# Altium footprint library PcbLibMG.PcbLib: 8 footprints
Each footprint in its own frame and in the unit in brackets; x right, y up, seen from the top. Pads: shape width x height; smd on the part's side, far side on the other; paste and mask are expansions set on the pad; w line width, h text height; cw(c..) or ccw(c..) is an arc to the next point about the centre after c.
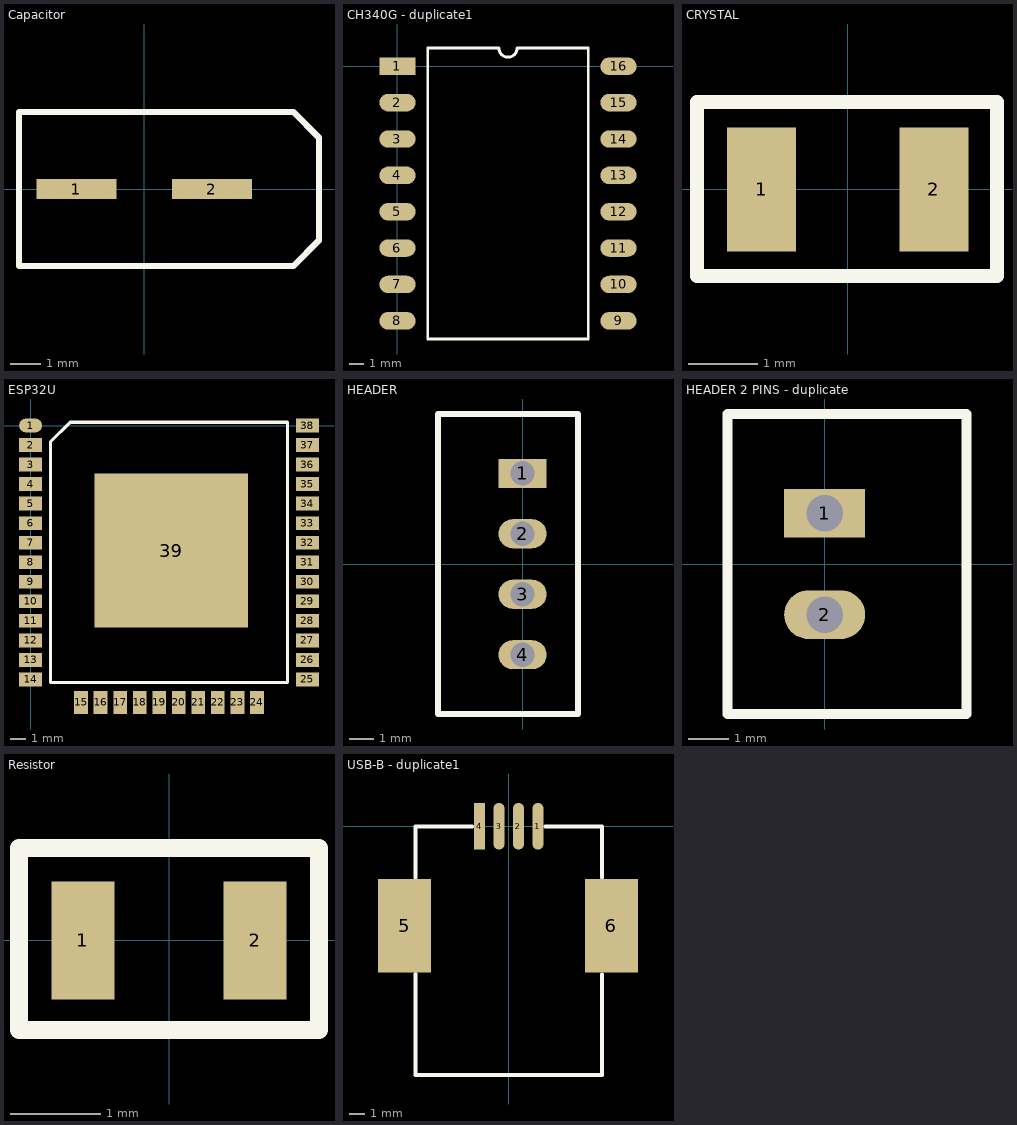
[diagram p0: the footprints below, top view; thin cyan lines are the x and y axes]

## Capacitor [mm]
pads (2):
  rect 2.6x0.65 smd: 1(-2.2,0) 2(2.2,0)
Top Overlay:
  lines w0.2: -4.064,-2.5 4.842,-2.5 5.675,-1.667 5.675,1.667 4.842,2.5 -4.064,2.5 -4.064,-2.5
3D body "EEEFN1V470L.STEP": height 5.8, standoff 0, extent -3.523,-3.173 3.777,3.427

## CH340G - duplicate1 [mm]
pads (16):
  rect 2.5x1.2 smd: 1(0,0)
  oval 2.5x1.2 smd: 2(0,-2.5) 3(0,-5) 4(0,-7.5) 5(0,-10) 6(0,-12.5) 7(0,-15) 8(0,-17.5) 9(15.2,-17.5) 10(15.2,-15) 11(15.2,-12.5) 12(15.2,-10) 13(15.2,-7.5) 14(15.2,-5) 15(15.2,-2.5) 16(15.2,0)
Top Overlay:
  lines w0.2: 2.085,-18.75 2.085,1.25 6.975,1.25 ccw(c7.6,1.25) 8.225,1.25 13.115,1.25 13.115,-18.75 2.085,-18.75
3D body "Ch340G--3DModel-STEP-56544.STEP": height 1.8, standoff 0, extent 4.5,-14.4 10.5,-4.4

## CRYSTAL [mm]
pads (2):
  rect 1x1.8 smd: 1(-1.25,0) 2(1.25,0)
Top Overlay:
  lines w0.2: -2.186,-1.255 2.167,-1.255 2.167,1.268 -2.186,1.268 -2.186,-1.255
3D body "CM8V-T1A-32.768KHZ-12.5PF-20PPM-TA-QA.STEP": height 0.6, standoff 0, extent -0.974,-0.587 1.026,0.613

## ESP32U [mm]
pads (39):
  oval 1.5x0.9 smd: 1(0,0)
  rect 1.5x0.9 smd: 2(0,-1.27) 3(0,-2.54) 4(0,-3.81) 5(0,-5.08) 6(0,-6.35) 7(0,-7.62) 8(0,-8.89) 9(0,-10.16) 10(0,-11.43) 11(0,-12.7) 12(0,-13.97) 13(0,-15.24) 14(0,-16.51) 25(18,-16.51) 26(18,-15.24) 27(18,-13.97) 28(18,-12.7) 29(18,-11.43) 30(18,-10.16) 31(18,-8.89) 32(18,-7.62) 33(18,-6.35) 34(18,-5.08) 35(18,-3.81) 36(18,-2.54) 37(18,-1.27) 38(18,0)
  rect 0.9x1.5 smd: 15(3.285,-18.01) 16(4.555,-18.01) 17(5.825,-18.01) 18(7.095,-18.01) 19(8.365,-18.01) 20(9.635,-18.01) 21(10.905,-18.01) 22(12.175,-18.01) 23(13.445,-18.01) 24(14.715,-18.01)
  rect 10x10 smd: 39(9.144,-8.128)
Top Overlay:
  lines w0.2: 1.285,-16.725 1.285,-1.07 2.57,0.215 16.715,0.215 16.715,-16.725 1.285,-16.725
3D body "ESP32-WROOM-32--3DModel-STEP-1.STEP": height 3.2, standoff 0, extent -0.11,-17.957 17.89,7.543

## HEADER [mm]
pads (4):
  rect 2x1.2 hole 1: 1(0,3.75)
  oval 2x1.2 hole 1: 2(0,1.25) 3(0,-1.25) 4(0,-3.75)
Top Overlay:
  lines w0.254: -3.5,-6.2 -3.5,6.2 2.3,6.2 2.3,-6.2 -3.5,-6.2
3D body "B4B-XH-A--3DModel-STEP-56544.STEP": height 7, standoff -3.4, extent -3.5,-6.2 2.25,6.2

## HEADER 2 PINS - duplicate [mm]
pads (2):
  rect 2x1.2 hole 0.9: 1(0,1.25)
  oval 2x1.2 hole 0.9: 2(0,-1.25)
Top Overlay:
  lines w0.254: -2.4,-3.7 3.5,-3.7 3.5,3.7 -2.4,3.7 -2.4,-3.7
3D body "B2B-XH-A--3DModel-STEP-56544.STEP": height 7, standoff -3.4, extent -2.25,-3.7 3.5,3.7

## Resistor [mm]
pads (2):
  rect 0.7x1.3 smd: 1(-0.95,0) 2(0.95,0)
Top Overlay:
  lines w0.2: -1.657,-0.988 -1.657,1.02 1.657,1.02 1.657,-0.988 -1.657,-0.988
3D body "RT0805FRE07255RL.STEP": height 0.6, standoff 0, extent -0.997,-0.621 1.003,0.629

## USB-B - duplicate1 [mm]
pads (6):
  oval 0.71x3 smd: 1(1.875,0) 2(0.625,0) 3(-0.625,0)
  rect 0.71x3 smd: 4(-1.875,0)
  rect 3.4x6 smd: 5(-6.7,-6.4) 6(6.6,-6.4)
Top Overlay:
  lines w0.254: -6,-9.5 -6,-16 6,-16 6,-9.541 5.983,-9.524 ; -6,-3.305 -6,0 -2.361,0 ; 2.364,0 6,0 6,-3.303